# Altium schematic symbol library capstone_v1.1.SchLib: 1 symbol
Pins are listed as number, name and electrical type; pins without a type are passive.

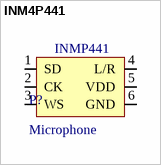
[diagram p0: symbol INM4P441]

## INM4P441
designator P?, comment Microphone
pins: 1 SD, 2 CK, 3 WS, 4 L/R, 5 VDD, 6 GND
text: INMP441